# EAGLE library part TPS63000 (library Ai_Power)
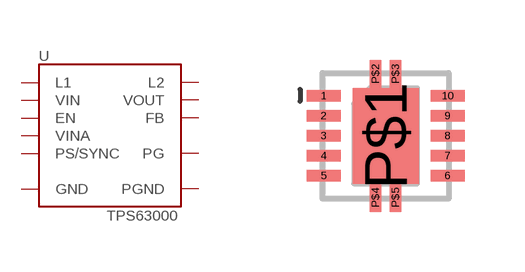
[diagram p0: symbol with the pads of 10-VFDFN; footprint 10-VFDFN]

Designator prefix -

## TPS63000  [10-VFDFN]
1  VOUT  sup
2  L2  pas
3  PGND  sup
4  L1  pas
5  VIN  pwr
6  EN
7  PS/SYNC  in
8  VINA  pwr
9  GND  pwr
10  FB  in
P$1  PG  sup
P$2  PG  sup
P$3  PG  sup
P$4  PG  sup
P$5  PG  sup

## Footprint 10-VFDFN (pad centres in mm)
smd 0.85 x 0.28: 1 -1.55,1; 2 -1.55,0.5; 3 -1.55,0; 4 -1.55,-0.5; 5 -1.55,-1; 6 1.55,-1; 7 1.55,-0.5; 8 1.55,0; 9 1.55,0.5; 10 1.55,1
smd 1.65 x 2.4: P$1 0,0
smd 0.28 x 0.7: P$2 -0.25,1.55; P$3 0.25,1.55; P$4 -0.25,-1.55; P$5 0.25,-1.55